# Altium schematic symbol library Eceborg_Microchip.SchLib: 7 symbols
Pins are listed as number, name and electrical type; pins without a type are passive.

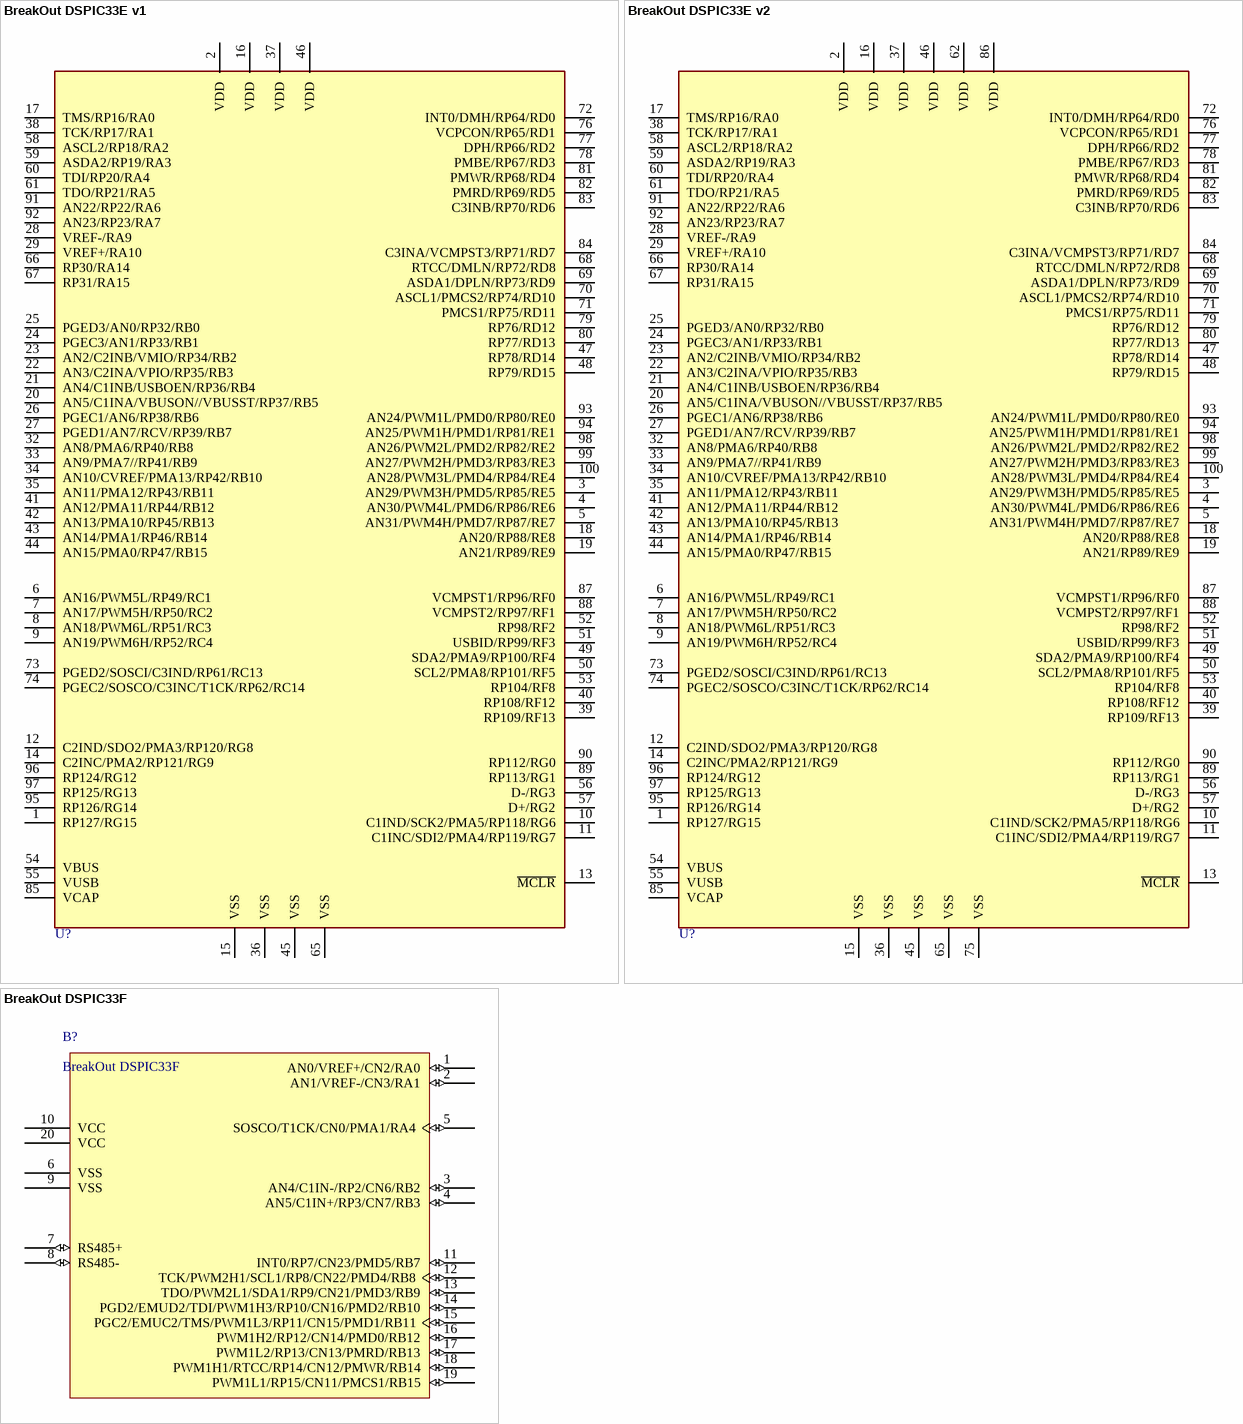
[diagram p0: symbols BreakOut DSPIC33E v1 to BreakOut DSPIC33F]

## BreakOut DSPIC33E v1
designator U?  (value not drawn)
BreakOut DSPIC33EPxxxMU810
footprint BreakOut dsPIC33E - samtec (breakOut 2015 pour dsPIC33E)
pins: 1 RP127/RG15, 2 VDD, 3 AN29/PWM3H/PMD5/RP85/RE5, 4 AN30/PWM4L/PMD6/RP86/RE6, 5 AN31/PWM4H/PMD7/RP87/RE7, 6 AN16/PWM5L/RP49/RC1, 7 AN17/PWM5H/RP50/RC2, 8 AN18/PWM6L/RP51/RC3, 9 AN19/PWM6H/RP52/RC4, 10 C1IND/SCK2/PMA5/RP118/RG6, 11 C1INC/SDI2/PMA4/RP119/RG7, 12 C2IND/SDO2/PMA3/RP120/RG8, 13 ~{MCLR}, 14 C2INC/PMA2/RP121/RG9, 15 VSS, 16 VDD, 17 TMS/RP16/RA0, 18 AN20/RP88/RE8, 19 AN21/RP89/RE9, 20 AN5/C1INA/VBUSON//VBUSST/RP37/RB5, 21 AN4/C1INB/USBOEN/RP36/RB4, 22 AN3/C2INA/VPIO/RP35/RB3, 23 AN2/C2INB/VMIO/RP34/RB2, 24 PGEC3/AN1/RP33/RB1, 25 PGED3/AN0/RP32/RB0, 26 PGEC1/AN6/RP38/RB6, 27 PGED1/AN7/RCV/RP39/RB7, 28 VREF-/RA9, 29 VREF+/RA10, 32 AN8/PMA6/RP40/RB8, 33 AN9/PMA7//RP41/RB9, 34 AN10/CVREF/PMA13/RP42/RB10, 35 AN11/PMA12/RP43/RB11, 36 VSS, 37 VDD, 38 TCK/RP17/RA1, 39 RP109/RF13, 40 RP108/RF12, 41 AN12/PMA11/RP44/RB12, 42 AN13/PMA10/RP45/RB13, 43 AN14/PMA1/RP46/RB14, 44 AN15/PMA0/RP47/RB15, 45 VSS, 46 VDD, 47 RP78/RD14, 48 RP79/RD15, 49 SDA2/PMA9/RP100/RF4, 50 SCL2/PMA8/RP101/RF5, 51 USBID/RP99/RF3, 52 RP98/RF2, 53 RP104/RF8, 54 VBUS, 55 VUSB, 56 D-/RG3, 57 D+/RG2, 58 ASCL2/RP18/RA2, 59 ASDA2/RP19/RA3, 60 TDI/RP20/RA4, 61 TDO/RP21/RA5, 65 VSS, 66 RP30/RA14, 67 RP31/RA15, 68 RTCC/DMLN/RP72/RD8, 69 ASDA1/DPLN/RP73/RD9, 70 ASCL1/PMCS2/RP74/RD10, 71 PMCS1/RP75/RD11, 72 INT0/DMH/RP64/RD0, 73 PGED2/SOSCI/C3IND/RP61/RC13, 74 PGEC2/SOSCO/C3INC/T1CK/RP62/RC14, 76 VCPCON/RP65/RD1, 77 DPH/RP66/RD2, 78 PMBE/RP67/RD3, 79 RP76/RD12, 80 RP77/RD13, 81 PMWR/RP68/RD4, 82 PMRD/RP69/RD5, 83 C3INB/RP70/RD6, 84 C3INA/VCMPST3/RP71/RD7, 85 VCAP, 87 VCMPST1/RP96/RF0, 88 VCMPST2/RP97/RF1, 89 RP113/RG1, 90 RP112/RG0, 91 AN22/RP22/RA6, 92 AN23/RP23/RA7, 93 AN24/PWM1L/PMD0/RP80/RE0, 94 AN25/PWM1H/PMD1/RP81/RE1, 95 RP126/RG14, 96 RP124/RG12, 97 RP125/RG13, 98 AN26/PWM2L/PMD2/RP82/RE2, 99 AN27/PWM2H/PMD3/RP83/RE3, 100 AN28/PWM3L/PMD4/RP84/RE4

## BreakOut DSPIC33E v2
designator U?  (value not drawn)
BreakOut DSPIC33EPxxxMU810
footprint BreakOut dsPIC33E - wurth (breakOut 2015 pour dsPIC33E)
pins: 1 RP127/RG15, 2 VDD, 3 AN29/PWM3H/PMD5/RP85/RE5, 4 AN30/PWM4L/PMD6/RP86/RE6, 5 AN31/PWM4H/PMD7/RP87/RE7, 6 AN16/PWM5L/RP49/RC1, 7 AN17/PWM5H/RP50/RC2, 8 AN18/PWM6L/RP51/RC3, 9 AN19/PWM6H/RP52/RC4, 10 C1IND/SCK2/PMA5/RP118/RG6, 11 C1INC/SDI2/PMA4/RP119/RG7, 12 C2IND/SDO2/PMA3/RP120/RG8, 13 ~{MCLR}, 14 C2INC/PMA2/RP121/RG9, 15 VSS, 16 VDD, 17 TMS/RP16/RA0, 18 AN20/RP88/RE8, 19 AN21/RP89/RE9, 20 AN5/C1INA/VBUSON//VBUSST/RP37/RB5, 21 AN4/C1INB/USBOEN/RP36/RB4, 22 AN3/C2INA/VPIO/RP35/RB3, 23 AN2/C2INB/VMIO/RP34/RB2, 24 PGEC3/AN1/RP33/RB1, 25 PGED3/AN0/RP32/RB0, 26 PGEC1/AN6/RP38/RB6, 27 PGED1/AN7/RCV/RP39/RB7, 28 VREF-/RA9, 29 VREF+/RA10, 32 AN8/PMA6/RP40/RB8, 33 AN9/PMA7//RP41/RB9, 34 AN10/CVREF/PMA13/RP42/RB10, 35 AN11/PMA12/RP43/RB11, 36 VSS, 37 VDD, 38 TCK/RP17/RA1, 39 RP109/RF13, 40 RP108/RF12, 41 AN12/PMA11/RP44/RB12, 42 AN13/PMA10/RP45/RB13, 43 AN14/PMA1/RP46/RB14, 44 AN15/PMA0/RP47/RB15, 45 VSS, 46 VDD, 47 RP78/RD14, 48 RP79/RD15, 49 SDA2/PMA9/RP100/RF4, 50 SCL2/PMA8/RP101/RF5, 51 USBID/RP99/RF3, 52 RP98/RF2, 53 RP104/RF8, 54 VBUS, 55 VUSB, 56 D-/RG3, 57 D+/RG2, 58 ASCL2/RP18/RA2, 59 ASDA2/RP19/RA3, 60 TDI/RP20/RA4, 61 TDO/RP21/RA5, 62 VDD, 65 VSS, 66 RP30/RA14, 67 RP31/RA15, 68 RTCC/DMLN/RP72/RD8, 69 ASDA1/DPLN/RP73/RD9, 70 ASCL1/PMCS2/RP74/RD10, 71 PMCS1/RP75/RD11, 72 INT0/DMH/RP64/RD0, 73 PGED2/SOSCI/C3IND/RP61/RC13, 74 PGEC2/SOSCO/C3INC/T1CK/RP62/RC14, 75 VSS, 76 VCPCON/RP65/RD1, 77 DPH/RP66/RD2, 78 PMBE/RP67/RD3, 79 RP76/RD12, 80 RP77/RD13, 81 PMWR/RP68/RD4, 82 PMRD/RP69/RD5, 83 C3INB/RP70/RD6, 84 C3INA/VCMPST3/RP71/RD7, 85 VCAP, 86 VDD, 87 VCMPST1/RP96/RF0, 88 VCMPST2/RP97/RF1, 89 RP113/RG1, 90 RP112/RG0, 91 AN22/RP22/RA6, 92 AN23/RP23/RA7, 93 AN24/PWM1L/PMD0/RP80/RE0, 94 AN25/PWM1H/PMD1/RP81/RE1, 95 RP126/RG14, 96 RP124/RG12, 97 RP125/RG13, 98 AN26/PWM2L/PMD2/RP82/RE2, 99 AN27/PWM2H/PMD3/RP83/RE3, 100 AN28/PWM3L/PMD4/RP84/RE4

## BreakOut DSPIC33F
designator B?
BreakOut DSPIC33FJ64MC802-I/SO_1; Supplier 1: Eceborg; ComponentLink1Description: Datasheet; ComponentLink1URL: http://ww1.microchip.com/downloads/en/DeviceDoc/70291D.pdf
footprint BreakOut DSPIC33F
pins: 1 AN0/VREF+/CN2/RA0 (io), 2 AN1/VREF-/CN3/RA1 (io), 3 AN4/C1IN-/RP2/CN6/RB2 (io), 4 AN5/C1IN+/RP3/CN7/RB3 (io), 5 SOSCO/T1CK/CN0/PMA1/RA4 (io), 6 VSS (power), 7 RS485+ (io), 8 RS485- (io), 9 VSS (power), 10 VCC (power), 11 INT0/RP7/CN23/PMD5/RB7 (io), 12 TCK/PWM2H1/SCL1/RP8/CN22/PMD4/RB8 (io), 13 TDO/PWM2L1/SDA1/RP9/CN21/PMD3/RB9 (io), 14 PGD2/EMUD2/TDI/PWM1H3/RP10/CN16/PMD2/RB10 (io), 15 PGC2/EMUC2/TMS/PWM1L3/RP11/CN15/PMD1/RB11 (io), 16 PWM1H2/RP12/CN14/PMD0/RB12 (io), 17 PWM1L2/RP13/CN13/PMRD/RB13 (io), 18 PWM1H1/RTCC/RP14/CN12/PMWR/RB14 (io), 19 PWM1L1/RP15/CN11/PMCS1/RB15 (io), 20 VCC (power)

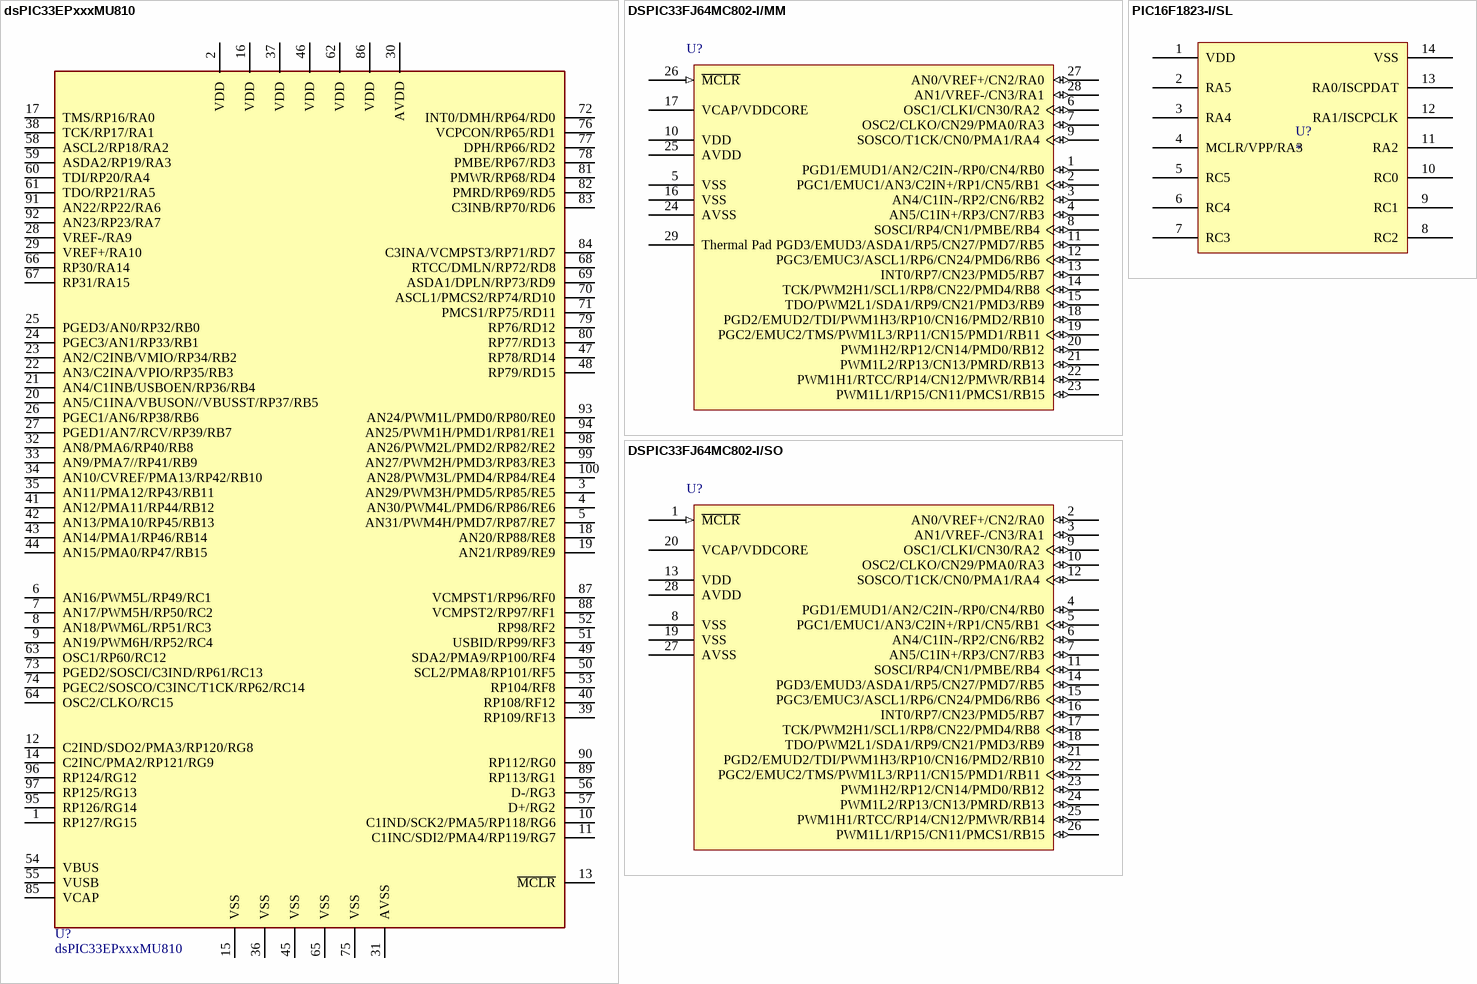
[diagram p1: symbols dsPIC33EPxxxMU810 to PIC16F1823-I/SL]

## dsPIC33EPxxxMU810
designator U?
footprint MA330025-1
footprint dsPIC33EPxxxMU810
pins: 1 RP127/RG15, 2 VDD, 3 AN29/PWM3H/PMD5/RP85/RE5, 4 AN30/PWM4L/PMD6/RP86/RE6, 5 AN31/PWM4H/PMD7/RP87/RE7, 6 AN16/PWM5L/RP49/RC1, 7 AN17/PWM5H/RP50/RC2, 8 AN18/PWM6L/RP51/RC3, 9 AN19/PWM6H/RP52/RC4, 10 C1IND/SCK2/PMA5/RP118/RG6, 11 C1INC/SDI2/PMA4/RP119/RG7, 12 C2IND/SDO2/PMA3/RP120/RG8, 13 ~{MCLR}, 14 C2INC/PMA2/RP121/RG9, 15 VSS, 16 VDD, 17 TMS/RP16/RA0, 18 AN20/RP88/RE8, 19 AN21/RP89/RE9, 20 AN5/C1INA/VBUSON//VBUSST/RP37/RB5, 21 AN4/C1INB/USBOEN/RP36/RB4, 22 AN3/C2INA/VPIO/RP35/RB3, 23 AN2/C2INB/VMIO/RP34/RB2, 24 PGEC3/AN1/RP33/RB1, 25 PGED3/AN0/RP32/RB0, 26 PGEC1/AN6/RP38/RB6, 27 PGED1/AN7/RCV/RP39/RB7, 28 VREF-/RA9, 29 VREF+/RA10, 30 AVDD, 31 AVSS, 32 AN8/PMA6/RP40/RB8, 33 AN9/PMA7//RP41/RB9, 34 AN10/CVREF/PMA13/RP42/RB10, 35 AN11/PMA12/RP43/RB11, 36 VSS, 37 VDD, 38 TCK/RP17/RA1, 39 RP109/RF13, 40 RP108/RF12, 41 AN12/PMA11/RP44/RB12, 42 AN13/PMA10/RP45/RB13, 43 AN14/PMA1/RP46/RB14, 44 AN15/PMA0/RP47/RB15, 45 VSS, 46 VDD, 47 RP78/RD14, 48 RP79/RD15, 49 SDA2/PMA9/RP100/RF4, 50 SCL2/PMA8/RP101/RF5, 51 USBID/RP99/RF3, 52 RP98/RF2, 53 RP104/RF8, 54 VBUS, 55 VUSB, 56 D-/RG3, 57 D+/RG2, 58 ASCL2/RP18/RA2, 59 ASDA2/RP19/RA3, 60 TDI/RP20/RA4, 61 TDO/RP21/RA5, 62 VDD, 63 OSC1/RP60/RC12, 64 OSC2/CLKO/RC15, 65 VSS, 66 RP30/RA14, 67 RP31/RA15, 68 RTCC/DMLN/RP72/RD8, 69 ASDA1/DPLN/RP73/RD9, 70 ASCL1/PMCS2/RP74/RD10, 71 PMCS1/RP75/RD11, 72 INT0/DMH/RP64/RD0, 73 PGED2/SOSCI/C3IND/RP61/RC13, 74 PGEC2/SOSCO/C3INC/T1CK/RP62/RC14, 75 VSS, 76 VCPCON/RP65/RD1, 77 DPH/RP66/RD2, 78 PMBE/RP67/RD3, 79 RP76/RD12, 80 RP77/RD13, 81 PMWR/RP68/RD4, 82 PMRD/RP69/RD5, 83 C3INB/RP70/RD6, 84 C3INA/VCMPST3/RP71/RD7, 85 VCAP, 86 VDD, 87 VCMPST1/RP96/RF0, 88 VCMPST2/RP97/RF1, 89 RP113/RG1, 90 RP112/RG0, 91 AN22/RP22/RA6, 92 AN23/RP23/RA7, 93 AN24/PWM1L/PMD0/RP80/RE0, 94 AN25/PWM1H/PMD1/RP81/RE1, 95 RP126/RG14, 96 RP124/RG12, 97 RP125/RG13, 98 AN26/PWM2L/PMD2/RP82/RE2, 99 AN27/PWM2H/PMD3/RP83/RE3, 100 AN28/PWM3L/PMD4/RP84/RE4

## DSPIC33FJ64MC802-I/MM
designator U?
High-Performance 16-bit Digital Signal Controller, 64 KB Flash, 16 KB RAM, 28-Pin QFN, Industrial Temperature; Published: 2-Dec-2009; DatasheetVersion: revD, Nov-2009; PackageVersion: revBB, Aug-2009; PackageReference: QFNS-MM28; Publisher: Altium Limited; PackageDescription: 28-Lead Plastic Quad Flat, No Lead Package (MM) - 6x6x0.9 mm Body [QFN-S] with 0.40 mm Contact Length; Supplier 1: Digi-Key; Supplier Part Number 1: DSPIC33FJ64MC802-I/MM-ND; Supplier 2: Farnell; Supplier Part Number 2: 1576839; ComponentLink1Description: Datasheet; ComponentLink1URL: http://ww1.microchip.com/downloads/en/DeviceDoc/70291D.pdf; ComponentLink2Description: Packaging Specification; ComponentLink2URL: http://www.microchip.com/stellent/groups/techpub_sg/documents/packagingspec/en012702.pdf; ComponentLink3Description: Microchip.com Home; ComponentLink3URL: http://www.microchip.com/
footprint QFNS-MM28_N (QFN, 28-Leads, Body 6x6 mm, Pitch 0.65mm, IPC Medium Density)
pins: 1 PGD1/EMUD1/AN2/C2IN-/RP0/CN4/RB0 (io), 2 PGC1/EMUC1/AN3/C2IN+/RP1/CN5/RB1 (io), 3 AN4/C1IN-/RP2/CN6/RB2 (io), 4 AN5/C1IN+/RP3/CN7/RB3 (io), 5 VSS (power), 6 OSC1/CLKI/CN30/RA2 (io), 7 OSC2/CLKO/CN29/PMA0/RA3 (io), 8 SOSCI/RP4/CN1/PMBE/RB4 (io), 9 SOSCO/T1CK/CN0/PMA1/RA4 (io), 10 VDD (power), 11 PGD3/EMUD3/ASDA1/RP5/CN27/PMD7/RB5 (io), 12 PGC3/EMUC3/ASCL1/RP6/CN24/PMD6/RB6 (io), 13 INT0/RP7/CN23/PMD5/RB7 (io), 14 TCK/PWM2H1/SCL1/RP8/CN22/PMD4/RB8 (io), 15 TDO/PWM2L1/SDA1/RP9/CN21/PMD3/RB9 (io), 16 VSS (power), 17 VCAP/VDDCORE (power), 18 PGD2/EMUD2/TDI/PWM1H3/RP10/CN16/PMD2/RB10 (io), 19 PGC2/EMUC2/TMS/PWM1L3/RP11/CN15/PMD1/RB11 (io), 20 PWM1H2/RP12/CN14/PMD0/RB12 (io), 21 PWM1L2/RP13/CN13/PMRD/RB13 (io), 22 PWM1H1/RTCC/RP14/CN12/PMWR/RB14 (io), 23 PWM1L1/RP15/CN11/PMCS1/RB15 (io), 24 AVSS (power), 25 AVDD (power), 26 ~{MCLR} (in), 27 AN0/VREF+/CN2/RA0 (io), 28 AN1/VREF-/CN3/RA1 (io), 29 Thermal Pad

## DSPIC33FJ64MC802-I/SO
designator U?
High-Performance 16-bit Digital Signal Controller, 64 KB Flash, 16 KB RAM, 28-Pin SOIC, Industrial Temperature; Published: 29-Jan-2009; LatestRevisionDate: 02-Dec-2009; LatestRevisionNote: Updated to datasheet revision D, Nov-2009; DatasheetVersion: revD, Nov-2009; PackageVersion: revBB, Aug-2009; PackageReference: SOIC-SO28; Publisher: Altium Limited; PackageDescription: 28-Lead Plastic Small Outline (SO) - Wide 7.50mm Body [SOIC]; Supplier 1: Digi-Key; Supplier Part Number 1: DSPIC33FJ64MC802-I/SO-ND; Supplier 2: Farnell; Supplier Part Number 2: 1576840; Code_JEDEC: MS-013; ComponentLink1Description: Datasheet; ComponentLink1URL: http://ww1.microchip.com/downloads/en/DeviceDoc/70291D.pdf; ComponentLink2Description: Packaging Specification; ComponentLink2URL: http://www.microchip.com/stellent/groups/techpub_sg/documents/packagingspec/en012702.pdf; ComponentLink3Description: Microchip.com Home; ComponentLink3URL: http://www.microchip.com/
footprint SOIC-SO28_N (SOIC, 28-Leads, Body 17.9x7.5mm, Pitch 1.27mm, IPC Medium Density)
pins: 1 ~{MCLR} (in), 2 AN0/VREF+/CN2/RA0 (io), 3 AN1/VREF-/CN3/RA1 (io), 4 PGD1/EMUD1/AN2/C2IN-/RP0/CN4/RB0 (io), 5 PGC1/EMUC1/AN3/C2IN+/RP1/CN5/RB1 (io), 6 AN4/C1IN-/RP2/CN6/RB2 (io), 7 AN5/C1IN+/RP3/CN7/RB3 (io), 8 VSS (power), 9 OSC1/CLKI/CN30/RA2 (io), 10 OSC2/CLKO/CN29/PMA0/RA3 (io), 11 SOSCI/RP4/CN1/PMBE/RB4 (io), 12 SOSCO/T1CK/CN0/PMA1/RA4 (io), 13 VDD (power), 14 PGD3/EMUD3/ASDA1/RP5/CN27/PMD7/RB5 (io), 15 PGC3/EMUC3/ASCL1/RP6/CN24/PMD6/RB6 (io), 16 INT0/RP7/CN23/PMD5/RB7 (io), 17 TCK/PWM2H1/SCL1/RP8/CN22/PMD4/RB8 (io), 18 TDO/PWM2L1/SDA1/RP9/CN21/PMD3/RB9 (io), 19 VSS (power), 20 VCAP/VDDCORE (power), 21 PGD2/EMUD2/TDI/PWM1H3/RP10/CN16/PMD2/RB10 (io), 22 PGC2/EMUC2/TMS/PWM1L3/RP11/CN15/PMD1/RB11 (io), 23 PWM1H2/RP12/CN14/PMD0/RB12 (io), 24 PWM1L2/RP13/CN13/PMRD/RB13 (io), 25 PWM1H1/RTCC/RP14/CN12/PMWR/RB14 (io), 26 PWM1L1/RP15/CN11/PMCS1/RB15 (io), 27 AVSS (power), 28 AVDD (power)

## PIC16F1823-I/SL
designator U?
MICROCHIP - PIC16F1823-I/SL - MCU 8 BITS PIC16F 32MHZ SOIC-14; Manufacturer: MICROCHIP; Manufacturer Part Number: PIC16F1823-I/SL; Supplier 1: Farnell; Supplier Part Number 1: 2315784
footprint PIC16F1823-I/SL--SOIC-14 (SOIC, 14-Leads, Body 8,6x3,9mm (max), Pitch 1,27mm, IPC Medium Density)
pins: 1 VDD, 2 RA5, 3 RA4, 4 MCLR/VPP/RA3, 5 RC5, 6 RC4, 7 RC3, 8 RC2, 9 RC1, 10 RC0, 11 RA2, 12 RA1/ISCPCLK, 13 RA0/ISCPDAT, 14 VSS